# EAGLE library part IRF7328 (library kitt.ic)
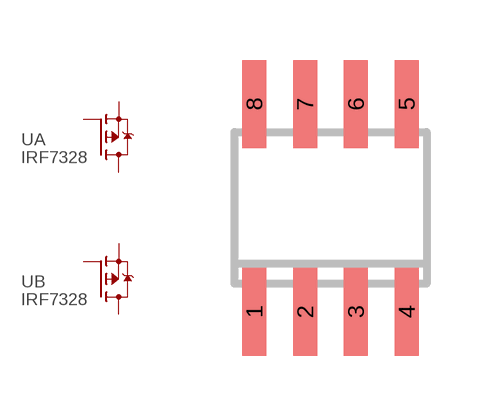
[diagram p12: symbol with the pads of SOIC8; footprint SOIC8]

Designator prefix -; gates A=P-MOSFET B=P-MOSFET

## IRF7328 (CC: XYX17)  [SOIC8]
1  A:S  pas
2  A:G  pas
3  B:S  pas
4  B:G  pas
5  B:D  pas
6  B:D  pas
7  A:D  pas
8  A:D  pas

## Footprint SOIC8 (pad centres in mm)
Small Outline IC
smd 0.6 x 2.2: 1 -1.905,-2.6; 2 -0.635,-2.6; 3 0.635,-2.6; 4 1.905,-2.6; 5 1.905,2.6; 6 0.635,2.6; 7 -0.635,2.6; 8 -1.905,2.6